# Altium schematic symbol library relay.SchLib: 1 symbol
Pins are listed as number, name and electrical type; pins without a type are passive.

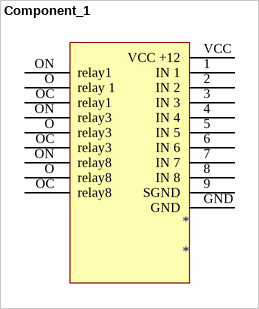
[diagram p0: symbol Component_1]

## Component_1
designator *
pins: 1 IN 1, 2 IN 2, 3 IN 3, 4 IN 4, 5 IN 5, 6 IN 6, 7 IN 7, 8 IN 8, 9 SGND, GND, O relay 1, O relay3, O relay8, OC relay1, OC relay3, OC relay8, ON relay1, ON relay3, ON relay8, VCC VCC +12